# EAGLE library part SQJ951EP-T1_GE3 (library SQJ951EP-T1_GE3)
MOSFET Dual P-Channel 30V AEC-Q101 Qualified Source: Datasheet <http://www.vishay.com/docs/63658/sqj951ep.pdf>
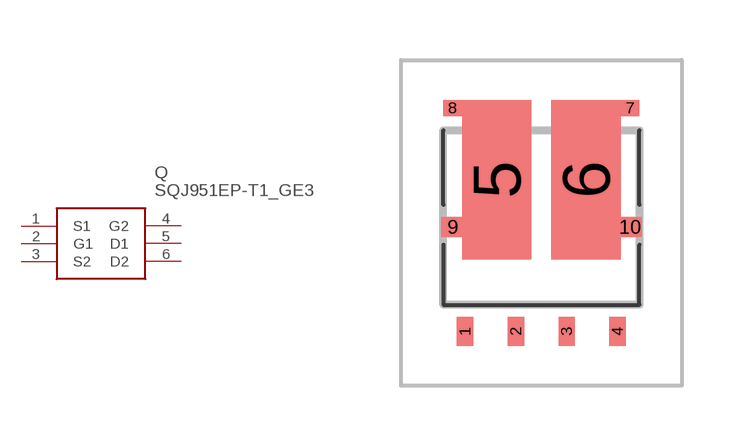
[diagram p0: symbol with the pads of SQJ968EPT1GE3; footprint SQJ968EPT1GE3]

Designator prefix Q

## SQJ951EP-T1_GE3 (Description: MOSFET Dual P-Channel 30V AEC-Q101 Qualified; Height: mm; Manufacturer_Name: Vishay; Manufacturer_Part_Number: SQJ951EP-T1_GE3; Mouser_Part_Number: 78-SQJ951EP-T1_GE3; Mouser_Price-Stock: https://www.mouser.co.uk/ProductDetail/Vishay-Semiconductors/SQJ951EP-T1_GE3?qs=ILgNtqsyH20s79Ingr8BFg%3D%3D)  [SQJ968EPT1GE3]
1  S1
2  G1
3  S2
4  G2
5  D1
6  D2

## Footprint SQJ968EPT1GE3 (pad centres in mm)
PowerPAK® SO-8L DUAL
smd 0.41 x 0.72: 1 -1.905,-0.66; 2 -0.635,-0.66; 3 0.635,-0.66; 4 1.905,-0.66
smd 1.73 x 3.99: 5 -1.115,3.135; 6 1.115,3.135
smd 0.47 x 0.41: 7 2.215,4.926; 8 -2.215,4.926
smd 0.585 x 0.51: 9 -2.215,1.95; 10 2.215,1.95